# EAGLE library part ADA4530-1 (library ADA4530)
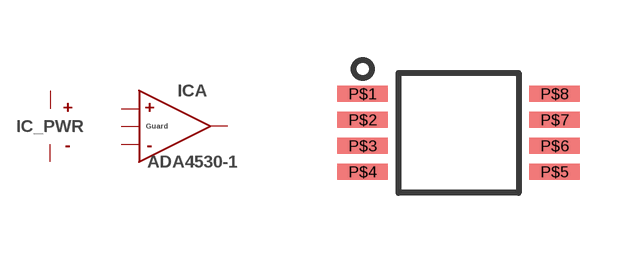
[diagram p0: symbol with the pads of MSOP8; footprint MSOP8]

Designator prefix IC; gates A=OP-AMP _PWR=PWR

## ADA4530-1  [MSOP8]
P$1  A:INP  in
P$2  A:GRD  out
P$4  _PWR:GND  pwr
P$5  _PWR:VDD  pwr
P$6  A:OUT  out
P$7  A:GRD  out
P$8  A:INN  in

## Footprint MSOP8 (pad centres in mm)
smd 1.26 x 0.4: P$1 -2.4,0.975; P$2 -2.4,0.325; P$3 -2.4,-0.325; P$4 -2.4,-0.975; P$5 2.4,-0.975; P$6 2.4,-0.325; P$7 2.4,0.325; P$8 2.4,0.975